# EAGLE library part B110 (library custom-connectors)
60-Pin Header DF17(2.0)-60DP-0.5V(57) for Topcon B110 RTK-GNSS Receiver
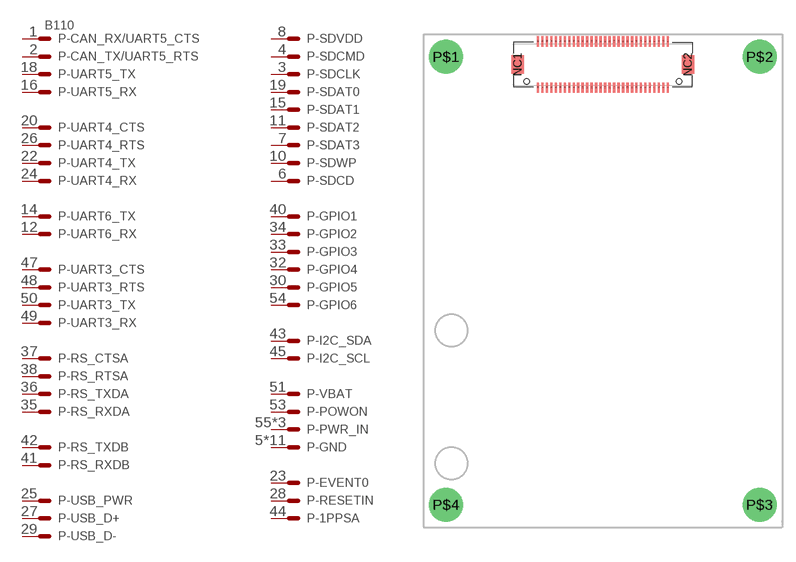
[diagram p10: symbol with the pads of B110; footprint B110]

Designator prefix P; gates -CAN_RX/UART5_CTS=MV -CAN_TX/UART5_RTS=M -SDCLK=M -SDCMD=M -GND=M -SDCD=M -SDAT3=M -SDVDD=M -SDWP=M -SDAT2=M -UART6_RX=M -UART6_TX=M -SDAT1=M -UART5_RX=M -UART5_TX=M -SDAT0=M -UART4_CTS=M -UART4_TX=M -EVENT0=M -UART4_RX=M -USB_PWR=M -UART4_RTS=M -USB_D+=M -RESETIN=M -USB_D-=M -GPIO5=M -GPIO4=M -GPIO3=M -GPIO2=M -RS_RXDA=M -RS_TXDA=M -RS_CTSA=M -RS_RTSA=M -GPIO1=M -RS_RXDB=M -RS_TXDB=M -I2C_SDA=M -1PPSA=M -I2C_SCL=M -UART3_CTS=M -UART3_RTS=M -UART3_RX=M -UART3_TX=M -VBAT=M -POWON=M -GPIO6=M -PWR_IN=M

## B110 (DIGI-KEY: H11387CT-ND)  [B110]
1  -CAN_RX/UART5_CTS:S  pas
2  -CAN_TX/UART5_RTS:S  pas
3  -SDCLK:S  pas
4  -SDCMD:S  pas
5  -GND:S  pas
6  -SDCD:S  pas
7  -SDAT3:S  pas
8  -SDVDD:S  pas
9  -GND:S  pas
10  -SDWP:S  pas
11  -SDAT2:S  pas
12  -UART6_RX:S  pas
13  -GND:S  pas
14  -UART6_TX:S  pas
15  -SDAT1:S  pas
16  -UART5_RX:S  pas
17  -GND:S  pas
18  -UART5_TX:S  pas
19  -SDAT0:S  pas
20  -UART4_CTS:S  pas
21  -GND:S  pas
22  -UART4_TX:S  pas
23  -EVENT0:S  pas
24  -UART4_RX:S  pas
25  -USB_PWR:S  pas
26  -UART4_RTS:S  pas
27  -USB_D+:S  pas
28  -RESETIN:S  pas
29  -USB_D-:S  pas
30  -GPIO5:S  pas
31  -GND:S  pas
32  -GPIO4:S  pas
33  -GPIO3:S  pas
34  -GPIO2:S  pas
35  -RS_RXDA:S  pas
36  -RS_TXDA:S  pas
37  -RS_CTSA:S  pas
38  -RS_RTSA:S  pas
39  -GND:S  pas
40  -GPIO1:S  pas
41  -RS_RXDB:S  pas
42  -RS_TXDB:S  pas
43  -I2C_SDA:S  pas
44  -1PPSA:S  pas
45  -I2C_SCL:S  pas
46  -GND:S  pas
47  -UART3_CTS:S  pas
48  -UART3_RTS:S  pas
49  -UART3_RX:S  pas
50  -UART3_TX:S  pas
51  -VBAT:S  pas
53  -POWON:S  pas
54  -GPIO6:S  pas
55  -PWR_IN:S  pas
56  -GND:S  pas
57  -PWR_IN:S  pas
58  -GND:S  pas
59  -PWR_IN:S  pas
60  -GND:S  pas

## Footprint B110 (pad centres in mm)
60-Pin Header DF17(2.0)-60DP-0.5V(57) for Topcon B110 RTK-GNSS Receiver
smd 0.25 x 1.15: 1 7.25,-2.575; 2 7.25,2.575; 3 6.75,-2.575; 4 6.75,2.575; 5 6.25,-2.575; 6 6.25,2.575; 7 5.75,-2.575; 8 5.75,2.575; 9 5.25,-2.575; 10 5.25,2.575; 11 4.75,-2.575; 12 4.75,2.575; 13 4.25,-2.575; 14 4.25,2.575; 15 3.75,-2.575; 16 3.75,2.575; 17 3.25,-2.575; 18 3.25,2.575; 19 2.75,-2.575; 20 2.75,2.575; 21 2.25,-2.575; 22 2.25,2.575; 23 1.75,-2.575; 24 1.75,2.575; 25 1.25,-2.575; 26 1.25,2.575; 27 0.75,-2.575; 28 0.75,2.575; 29 0.25,-2.575; 30 0.25,2.575; 31 -0.25,-2.575; 32 -0.25,2.575; 33 -0.75,-2.575; 34 -0.75,2.575; 35 -1.25,-2.575; 36 -1.25,2.575; 37 -1.75,-2.575; 38 -1.75,2.575; 39 -2.25,-2.575; 40 -2.25,2.575; 41 -2.75,-2.575; 42 -2.75,2.575; 43 -3.25,-2.575; 44 -3.25,2.575; 45 -3.75,-2.575; 46 -3.75,2.575; 47 -4.25,-2.575; 48 -4.25,2.575; 49 -4.75,-2.575; 50 -4.75,2.575; 51 -5.25,-2.575; 52 -5.25,2.575; 53 -5.75,-2.575; 54 -5.75,2.575; 55 -6.25,-2.575; 56 -6.25,2.575; 57 -6.75,-2.575; 58 -6.75,2.575; 59 -7.25,-2.575; 60 -7.25,2.575
smd 1.4 x 2.1: NC1 -9.5,0; NC2 9.5,0
drill 2.2 pad 3.8: P$1 -17.5,0.86; P$2 17.5,0.86; P$3 17.5,-49.14; P$4 -17.5,-49.14
hole 0.6 at 8.5,-1.9
hole 0.6 at -8.5,-1.9